# Altium schematic symbol library TPS51285.SchLib: 1 symbol
Pins are listed as number, name and electrical type; pins without a type are passive.

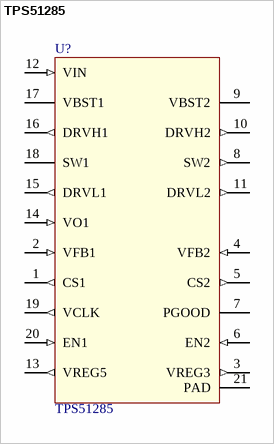
[diagram p0: symbol TPS51285]

## TPS51285
designator U?
Ultra-Low Quiescent (ULQ™) Dual Synchronous Step-Down Controller with / 5V and 3.3V LDOs; value: TPS53127RG
footprint WQFN-20 (QFN, 20-Leads, Body 3.00x3.00mm, Pitch 0.40mm, Thermal Pad 1.70x1.70mm, IPC Medium Density)
pins: 1 CS1 (out), 2 VFB1 (in), 3 VREG3 (out), 4 VFB2 (in), 5 CS2 (out), 6 EN2 (in), 7 PGOOD (oc), 8 SW2 (out), 9 VBST2, 10 DRVH2 (out), 11 DRVL2 (out), 12 VIN (in), 13 VREG5 (out), 14 VO1 (in), 15 DRVL1 (out), 16 DRVH1 (out), 17 VBST1, 18 SW1, 19 VCLK (out), 20 EN1 (in), 21 PAD (power)